# Altium footprint library Power Devices.PcbLib: 48 footprints (part 2 of 3)
Each footprint in its own frame and in the unit in brackets; x right, y up, seen from the top. Pads: shape width x height; smd on the part's side, far side on the other; paste and mask are expansions set on the pad; w line width, h text height; cw(c..) or ccw(c..) is an arc to the next point about the centre after c.
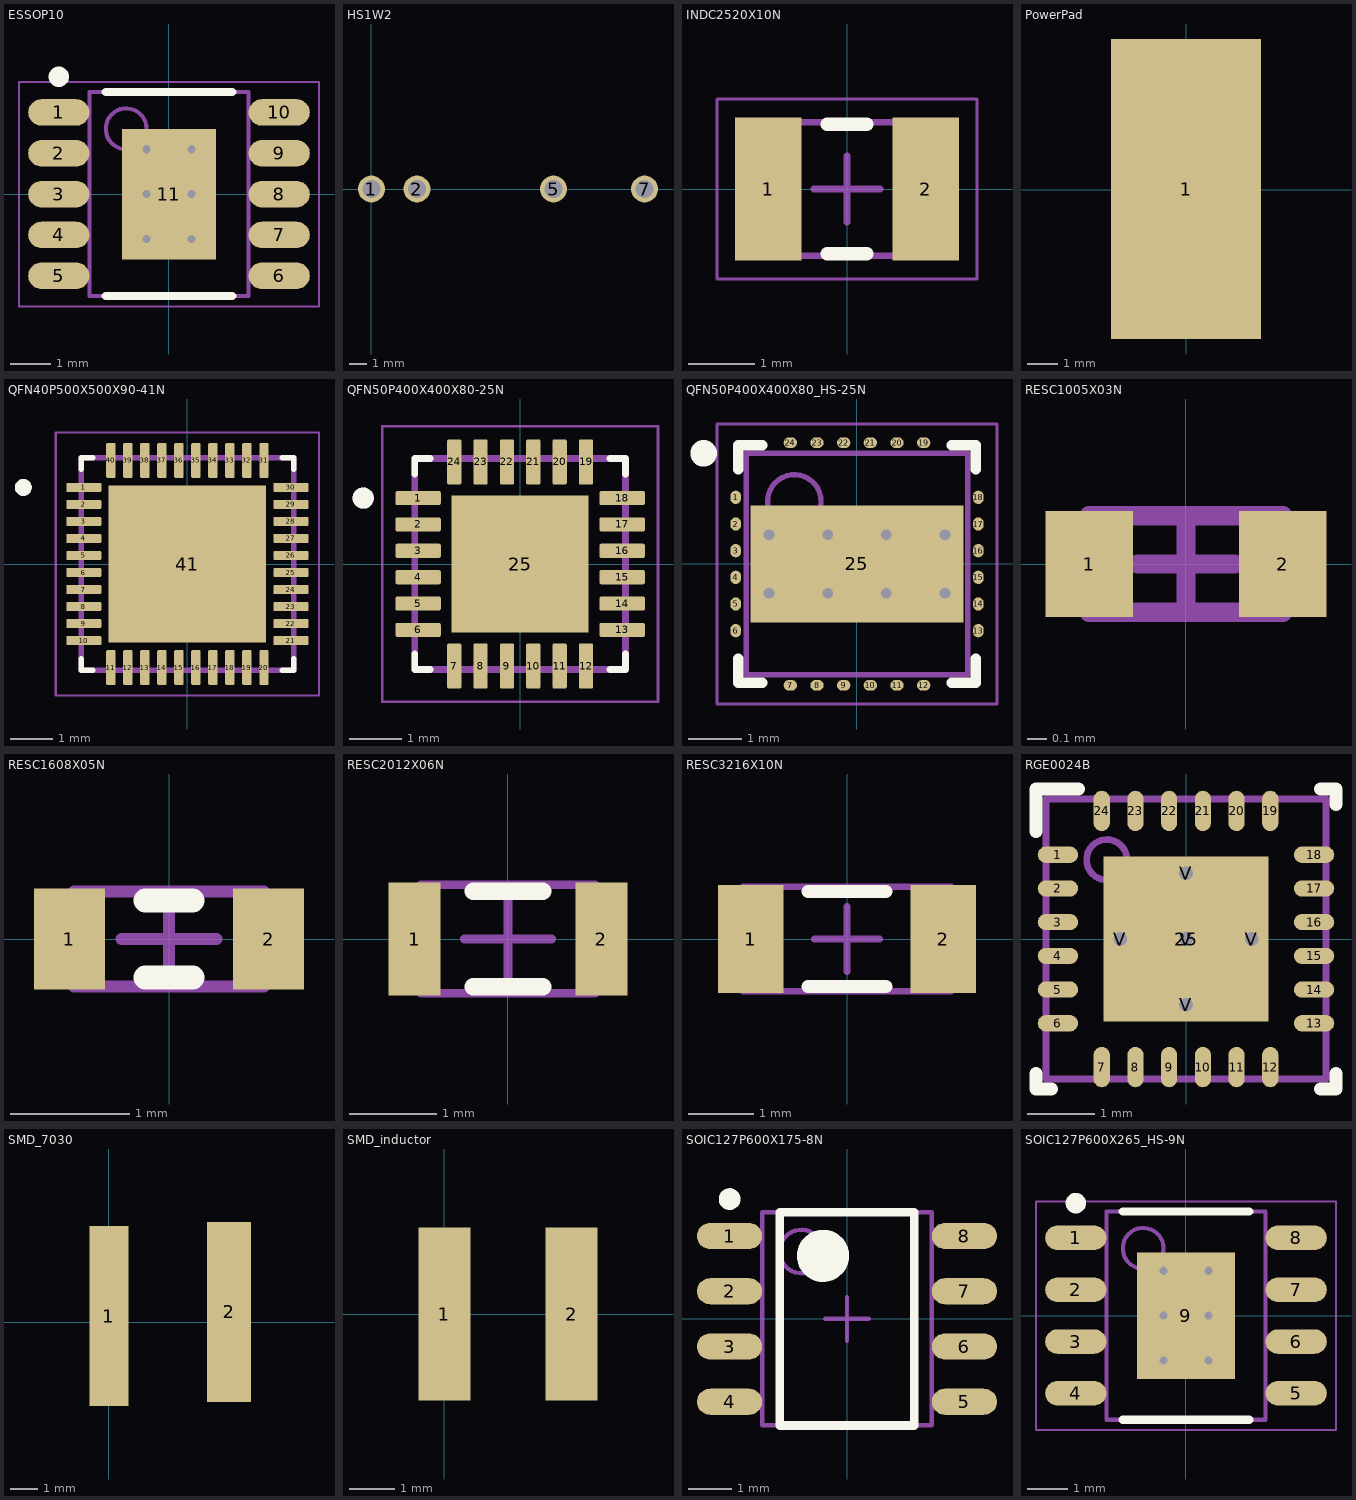
[diagram p1: the footprints below, top view; thin cyan lines are the x and y axes]

## ESSOP10 [mm] "TSOP, 10-Leads, Body 5.00x3.90mm, Pitch 1.00mm, Thermal Pad 3.20x2.30mm, IPC Medium Density"
height 1.5
pads (11):
  oval 1.5x0.65 smd: 1(-2.7,2) 2(-2.7,1) 3(-2.7,0) 4(-2.7,-1) 5(-2.7,-2) 6(2.7,-2) 7(2.7,-1) 8(2.7,0) 9(2.7,1) 10(2.7,2)
  rect 2.3x3.2 smd: 11(0,0)
via 0.55,-1.1 diameter 0.5 hole 0.2
via -0.55,-1.1 diameter 0.5 hole 0.2
via 0.55,0 diameter 0.5 hole 0.2
via -0.55,0 diameter 0.5 hole 0.2
via 0.55,1.1 diameter 0.5 hole 0.2
via -0.55,1.1 diameter 0.5 hole 0.2
Top Overlay:
  circle w0.25: c-2.7,2.875 r0.125
  lines w0.2: -1.55,-2.5 1.55,-2.5 ; -1.55,2.5 1.55,2.5
Mechanical 13:
  circle w0.1: c-1.05,1.6 r0.5
  lines w0.1: -1.95,-2.5 1.95,-2.5 1.95,2.5 -1.95,2.5 -1.95,-2.5
Mechanical 15:
  lines w0.05: -3.675,-2.75 3.675,-2.75 3.675,2.75 -3.675,2.75 -3.675,-2.75
  lines w0.1: -0.5,0 0.5,0 ; 0,-0.5 0,0.5
3D body "TSOP100P600X150_HS-11N.step": height 1.5, standoff 0, extent -3,-2.5 3,2.5

## HS1W2 [mm]
pads (4):
  round 1.5 hole 1: 1(0,0) 2(2.54,0) 5(10.16,0) 7(15.24,0)
3D body: height 12.5, standoff 0, extent -2.478,-7.066 17.007,2.866

## INDC2520X10N [mm] "Chip Inductor, 2-Leads, Body 2.50x2.00mm, IPC Medium Density"
height 1
pads (2):
  rect 1x2.14 smd: 1(-1.18,0) 2(1.18,0)
Top Overlay:
  lines w0.2: -0.3,-0.97 0.3,-0.97 ; -0.3,0.97 0.3,0.97
Mechanical 13:
  lines w0.1: -1.25,-1 1.25,-1 1.25,1 -1.25,1 -1.25,-1
Mechanical 15:
  lines w0.05: -1.95,-1.35 1.95,-1.35 1.95,1.35 -1.95,1.35 -1.95,-1.35
  lines w0.1: -0.5,0 0.5,0 ; 0,-0.5 0,0.5
3D body "INDC2520X10N.step": height 1, standoff 0, extent -1.25,-1 1.25,1

## PowerPad [mm]
pads (1):
  rect 5x10 smd: 1(0,0.025)

## QFN40P500X500X90-41N [mm]
height 0.9
pads (41):
  rrect25% 0.82x0.22 smd mask+0.05: 1(-2.435,1.8) 2(-2.435,1.4) 3(-2.435,1) 4(-2.435,0.6) 5(-2.435,0.2) 6(-2.435,-0.2) 7(-2.435,-0.6) 8(-2.435,-1) 9(-2.435,-1.4) 10(-2.435,-1.8) 21(2.435,-1.8) 22(2.435,-1.4) 23(2.435,-1) 24(2.435,-0.6) 25(2.435,-0.2) 26(2.435,0.2) 27(2.435,0.6) 28(2.435,1) 29(2.435,1.4) 30(2.435,1.8)
  rrect25% 0.22x0.82 smd mask+0.05: 11(-1.8,-2.435) 12(-1.4,-2.435) 13(-1,-2.435) 14(-0.6,-2.435) 15(-0.2,-2.435) 16(0.2,-2.435) 17(0.6,-2.435) 18(1,-2.435) 19(1.4,-2.435) 20(1.8,-2.435) 31(1.8,2.435) 32(1.4,2.435) 33(1,2.435) 34(0.6,2.435) 35(0.2,2.435) 36(-0.2,2.435) 37(-0.6,2.435) 38(-1,2.435) 39(-1.4,2.435) 40(-1.8,2.435)
  rect 3.7x3.7 smd paste-3 mask+0.05: 41(0,0)
Top Overlay:
  circle w0.2: c-3.86,1.8 r0.1
  lines w0.127: -2.5,-2.23 -2.5,-2.5 -2.23,-2.5 ; -2.5,2.23 -2.5,2.5 -2.23,2.5 ; 2.23,-2.5 2.5,-2.5 2.5,-2.23 ; 2.23,2.5 2.5,2.5 2.5,2.23
Top Paste:
  region: -0.225,0.225 -1.395,0.225 -1.395,1.395 -0.225,1.395
  region: 1.395,0.225 0.225,0.225 0.225,1.395 1.395,1.395
  region: -0.225,-1.395 -1.395,-1.395 -1.395,-0.225 -0.225,-0.225
  region: 1.395,-1.395 0.225,-1.395 0.225,-0.225 1.395,-0.225
Mechanical 13:
  circle w0.2: c-3.86,1.8 r0.1
  lines w0.127: -2.5,-2.5 -2.5,2.5 2.5,2.5 2.5,-2.5 -2.5,-2.5
Mechanical 15:
  lines w0.05: -3.095,-3.095 -3.095,3.095 3.095,3.095 3.095,-3.095 -3.095,-3.095

## QFN50P400X400X80-25N [mm]
pads (25):
  rrect25% 0.86x0.27 smd: 1(-1.935,1.25) 2(-1.935,0.75) 3(-1.935,0.25) 4(-1.935,-0.25) 5(-1.935,-0.75) 6(-1.935,-1.25) 13(1.935,-1.25) 14(1.935,-0.75) 15(1.935,-0.25) 16(1.935,0.25) 17(1.935,0.75) 18(1.935,1.25)
  rrect25% 0.27x0.86 smd: 7(-1.25,-1.935) 8(-0.75,-1.935) 9(-0.25,-1.935) 10(0.25,-1.935) 11(0.75,-1.935) 12(1.25,-1.935) 19(1.25,1.935) 20(0.75,1.935) 21(0.25,1.935) 22(-0.25,1.935) 23(-0.75,1.935) 24(-1.25,1.935)
  rect 2.6x2.6 smd paste-2: 25(0,0)
Top Overlay:
  circle w0.2: c-2.975,1.25 r0.1
  lines w0.127: -2,-1.705 -2,-2 -1.705,-2 ; -2,1.705 -2,2 -1.705,2 ; 1.705,-2 2,-2 2,-1.705 ; 1.705,2 2,2 2,1.705
Top Paste:
  region: 0.82,-0.82 -0.82,-0.82 -0.82,0.82 0.82,0.82
Mechanical 13:
  circle w0.2: c-2.975,1.25 r0.1
  lines w0.127: -2,-2 -2,2 2,2 2,-2 -2,-2
Mechanical 15:
  lines w0.05: -2.615,-2.615 -2.615,2.615 2.615,2.615 2.615,-2.615 -2.615,-2.615
3D body "step_temp.STEP": height 0.8, standoff 0, extent -2,-2 2,2

## QFN50P400X400X80_HS-25N [mm] "QFN, 24-Leads, Body 4.00x4.00mm, Pitch 0.50mm, Thermal Pad 4.00x2.20mm, IPC Medium Density"
height 0.8
pads (25):
  oval 0.2x0.25 smd: 1(-2.275,1.25) 2(-2.275,0.75) 3(-2.275,0.25) 4(-2.275,-0.25) 5(-2.275,-0.75) 6(-2.275,-1.25) 13(2.275,-1.25) 14(2.275,-0.75) 15(2.275,-0.25) 16(2.275,0.25) 17(2.275,0.75) 18(2.275,1.25)
  oval 0.25x0.2 smd: 7(-1.25,-2.275) 8(-0.75,-2.275) 9(-0.25,-2.275) 10(0.25,-2.275) 11(0.75,-2.275) 12(1.25,-2.275) 19(1.25,2.275) 20(0.75,2.275) 21(0.25,2.275) 22(-0.25,2.275) 23(-0.75,2.275) 24(-1.25,2.275)
  rect 4x2.2 smd: 25(0,0)
via 1.65,-0.55 diameter 0.5 hole 0.2
via 0.55,-0.55 diameter 0.5 hole 0.2
via -0.55,-0.55 diameter 0.5 hole 0.2
via -1.65,-0.55 diameter 0.5 hole 0.2
via 1.65,0.55 diameter 0.5 hole 0.2
via 0.55,0.55 diameter 0.5 hole 0.2
via -0.55,0.55 diameter 0.5 hole 0.2
via -1.65,0.55 diameter 0.5 hole 0.2
Top Overlay:
  circle w0.25: c-2.875,2.075 r0.125
  lines w0.2: -2.225,-1.775 -2.225,-2.225 -1.775,-2.225 ; -2.225,1.775 -2.225,2.225 -1.775,2.225 ; 1.775,-2.225 2.225,-2.225 2.225,-1.775 ; 1.775,2.225 2.225,2.225 2.225,1.775
Mechanical 13:
  circle w0.1: c-1.175,1.175 r0.5
  lines w0.1: -2.075,-2.075 2.075,-2.075 2.075,2.075 -2.075,2.075 -2.075,-2.075
Mechanical 15:
  lines w0.05: -2.625,-2.625 2.625,-2.625 2.625,2.625 -2.625,2.625 -2.625,-2.625
  lines w0.1: -0.5,0 0.5,0 ; 0,-0.5 0,0.5
3D body: height 0.8, standoff 0.01, extent -2.075,-2.075 2.075,2.075

## RESC1005X03N [mm] "Chip Resistor, 2-Leads, Body 1.00x0.50mm, IPC Medium Density"
height 0.3
pads (2):
  rect 0.45x0.55 smd: 1(-0.5,0) 2(0.5,0)
Mechanical 13:
  lines w0.1: -0.5,-0.25 -0.5,0.25 0.5,0.25 0.5,-0.25 -0.5,-0.25
Mechanical 15:
  lines w0.1: -0.25,0 0.25,0 ; 0,-0.25 0,0.25
3D body "RESC1005X03N.step": height 0.3, standoff 0, extent -0.5,-0.25 0.5,0.25

## RESC1608X05N [mm] "Chip Resistor, 2-Leads, Body 1.60x0.80mm, IPC Medium Density"
height 0.5
pads (2):
  rect 0.6x0.85 smd: 1(-0.838,0) 2(0.838,0)
Top Overlay:
  lines w0.2: -0.2,-0.325 0.2,-0.325 ; -0.2,0.325 0.2,0.325
Mechanical 13:
  lines w0.1: -0.8,-0.4 0.8,-0.4 0.8,0.4 -0.8,0.4 -0.8,-0.4
Mechanical 15:
  lines w0.1: -0.4,0 0.4,0 ; 0,-0.4 0,0.4
3D body "RESC1608X05N.step": height 0.5, standoff 0, extent -0.8,-0.4 0.8,0.4

## RESC2012X06N [mm] "Chip Resistor, 2-Leads, Body 2.00x1.25mm, IPC Medium Density"
height 0.6
pads (2):
  rect 0.6x1.3 smd: 1(-1.075,0) 2(1.075,0)
Top Overlay:
  lines w0.2: -0.4,-0.55 0.4,-0.55 ; -0.4,0.55 0.4,0.55
Mechanical 13:
  lines w0.1: -1,-0.625 -1,0.625 1,0.625 1,-0.625 -1,-0.625
Mechanical 15:
  lines w0.1: -0.5,0 0.5,0 ; 0,-0.5 0,0.5
3D body "RESC2012X06N.step": height 0.6, standoff 0, extent -1,-0.625 1,0.625

## RESC3216X10N [mm] "Chip Resistor, 2-Leads, Body 3.20x1.60mm, IPC Medium Density"
height 1
pads (2):
  rect 1x1.65 smd: 1(-1.475,0) 2(1.475,0)
Top Overlay:
  lines w0.2: -0.6,-0.725 0.6,-0.725 ; -0.6,0.725 0.6,0.725
Mechanical 13:
  lines w0.1: -1.6,-0.8 1.6,-0.8 1.6,0.8 -1.6,0.8 -1.6,-0.8
Mechanical 15:
  lines w0.1: -0.5,0 0.5,0 ; 0,-0.5 0,0.5
3D body "RESC3216X10N.step": height 1, standoff 0, extent -1.6,-0.8 1.6,0.8

## RGE0024B [mm]
pads (30):
  oval 0.6x0.24 smd paste+0 mask+0.051: 1(-1.9,1.25) 2(-1.9,0.75) 3(-1.9,0.25) 4(-1.9,-0.25) 5(-1.9,-0.75) 6(-1.9,-1.25) 13(1.9,-1.25) 14(1.9,-0.75) 15(1.9,-0.25) 16(1.9,0.25) 17(1.9,0.75) 18(1.9,1.25)
  oval 0.24x0.6 smd paste+0 mask+0.051: 7(-1.25,-1.9) 8(-0.75,-1.9) 9(-0.25,-1.9) 10(0.25,-1.9) 11(0.75,-1.9) 12(1.25,-1.9) 19(1.25,1.9) 20(0.75,1.9) 21(0.25,1.9) 22(-0.25,1.9) 23(-0.75,1.9) 24(-1.25,1.9)
  rect 2.45x2.45 smd paste-1.225 mask+0.051: 25(0,0)
  round 0.5 hole 0.203 mask+0.051: V(-0.975,0) V(0,-0.975) V(0,0) V(0,0.975) V(0.975,0)
Top Overlay:
  lines w0.2: -2.225,-2 -2.225,-2.225 -2,-2.225 ; -2.225,1.6 -2.225,2.225 -1.6,2.225 ; 2,-2.225 2.225,-2.225 2.225,-2 ; 2,2.225 2.225,2.225 2.225,2
Top Paste:
  region: 0.1,1.184 0.1,0.1 1.184,0.1 1.184,1.184
  region: -0.1,0.1 -0.1,1.184 -1.184,1.184 -1.184,0.1
  region: -0.1,-1.184 -0.1,-0.1 -1.184,-0.1 -1.184,-1.184
  region: 0.1,-0.1 0.1,-1.184 1.184,-1.184 1.184,-0.1
Mechanical 13:
  circle w0.1: c-1.175,1.175 r0.3
  lines w0.1: -2.075,-2.075 -2.075,2.075 2.075,2.075 2.075,-2.075 -2.075,-2.075
  text ".Designator" at -1.854,-1.143 h1.27
3D body: height 0.25, standoff 0, extent 0,0 0.254,0.254

## SMD_7030 [mm]
pads (2):
  rect 1.4x6.5 smd: 1(0,0.229)
  rect 1.58x6.5 smd: 2(4.34,0.381)
3D body "Coilcraft-XAL7030-472.step": height 3, standoff -0.1, extent -1.688,-3.695 6.312,4.305

## SMD_inductor [mm]
pads (2):
  rect 1.14x3.8 smd: 1(0,0) 2(2.794,0)
3D body "Coilcraft-LPS3010.step": height 1, standoff 0, extent -0.27,-1.515 2.76,1.515

## SOIC127P600X175-8N [mm] "SOIC, 8-Leads, Body 4.90x3.90mm, Pitch 1.27mm, IPC Medium Density"
height 1.75
pads (8):
  oval 1.5x0.6 smd: 1(-2.7,1.905) 2(-2.7,0.635) 3(-2.7,-0.635) 4(-2.7,-1.905) 5(2.7,-1.905) 6(2.7,-0.635) 7(2.7,0.635) 8(2.7,1.905)
Top Overlay:
  circle w0.6: c-0.55,1.45 r0.3
  circle w0.25: c-2.7,2.755 r0.125
  lines w0.2: -1.55,-2.45 1.55,-2.45 1.55,2.45 -1.55,2.45 -1.55,-2.45
Mechanical 13:
  circle w0.1: c-1.05,1.55 r0.5
  lines w0.1: -1.95,-2.45 1.95,-2.45 1.95,2.45 -1.95,2.45 -1.95,-2.45
Mechanical 15:
  lines w0.1: -0.5,0 0.5,0 ; 0,-0.5 0,0.5
3D body "SOIC127P600X175-8N.step": height 1.75, standoff 0, extent -3,-2.45 3,2.45

## SOIC127P600X265_HS-9N [mm] "SOIC, 8-Leads, Body 5.00x3.90mm, Pitch 1.27mm, Thermal Pad 3.10x2.40mm, IPC Medium Density"
height 2.65
pads (9):
  oval 1.5x0.6 smd: 1(-2.7,1.905) 2(-2.7,0.635) 3(-2.7,-0.635) 4(-2.7,-1.905) 5(2.7,-1.905) 6(2.7,-0.635) 7(2.7,0.635) 8(2.7,1.905)
  rect 2.4x3.1 smd: 9(0,0)
via 0.55,-1.1 diameter 0.5 hole 0.2
via -0.55,-1.1 diameter 0.5 hole 0.2
via 0.55,0 diameter 0.5 hole 0.2
via -0.55,0 diameter 0.5 hole 0.2
via 0.55,1.1 diameter 0.5 hole 0.2
via -0.55,1.1 diameter 0.5 hole 0.2
Top Overlay:
  circle w0.25: c-2.7,2.755 r0.125
  lines w0.2: -1.55,-2.55 1.55,-2.55 ; -1.55,2.55 1.55,2.55
Mechanical 13:
  circle w0.1: c-1.05,1.65 r0.5
  lines w0.1: -1.95,-2.55 1.95,-2.55 1.95,2.55 -1.95,2.55 -1.95,-2.55
Mechanical 15:
  lines w0.05: -3.675,-2.8 3.675,-2.8 3.675,2.8 -3.675,2.8 -3.675,-2.8
  lines w0.1: -0.5,0 0.5,0 ; 0,-0.5 0,0.5
3D body "SOIC127P600X265_HS-9N.step": height 2.65, standoff 0, extent -3,-2.55 3,2.55